# Altium schematic symbol library UNTClibrary.SchLib: 230 symbols (part 2 of 2)
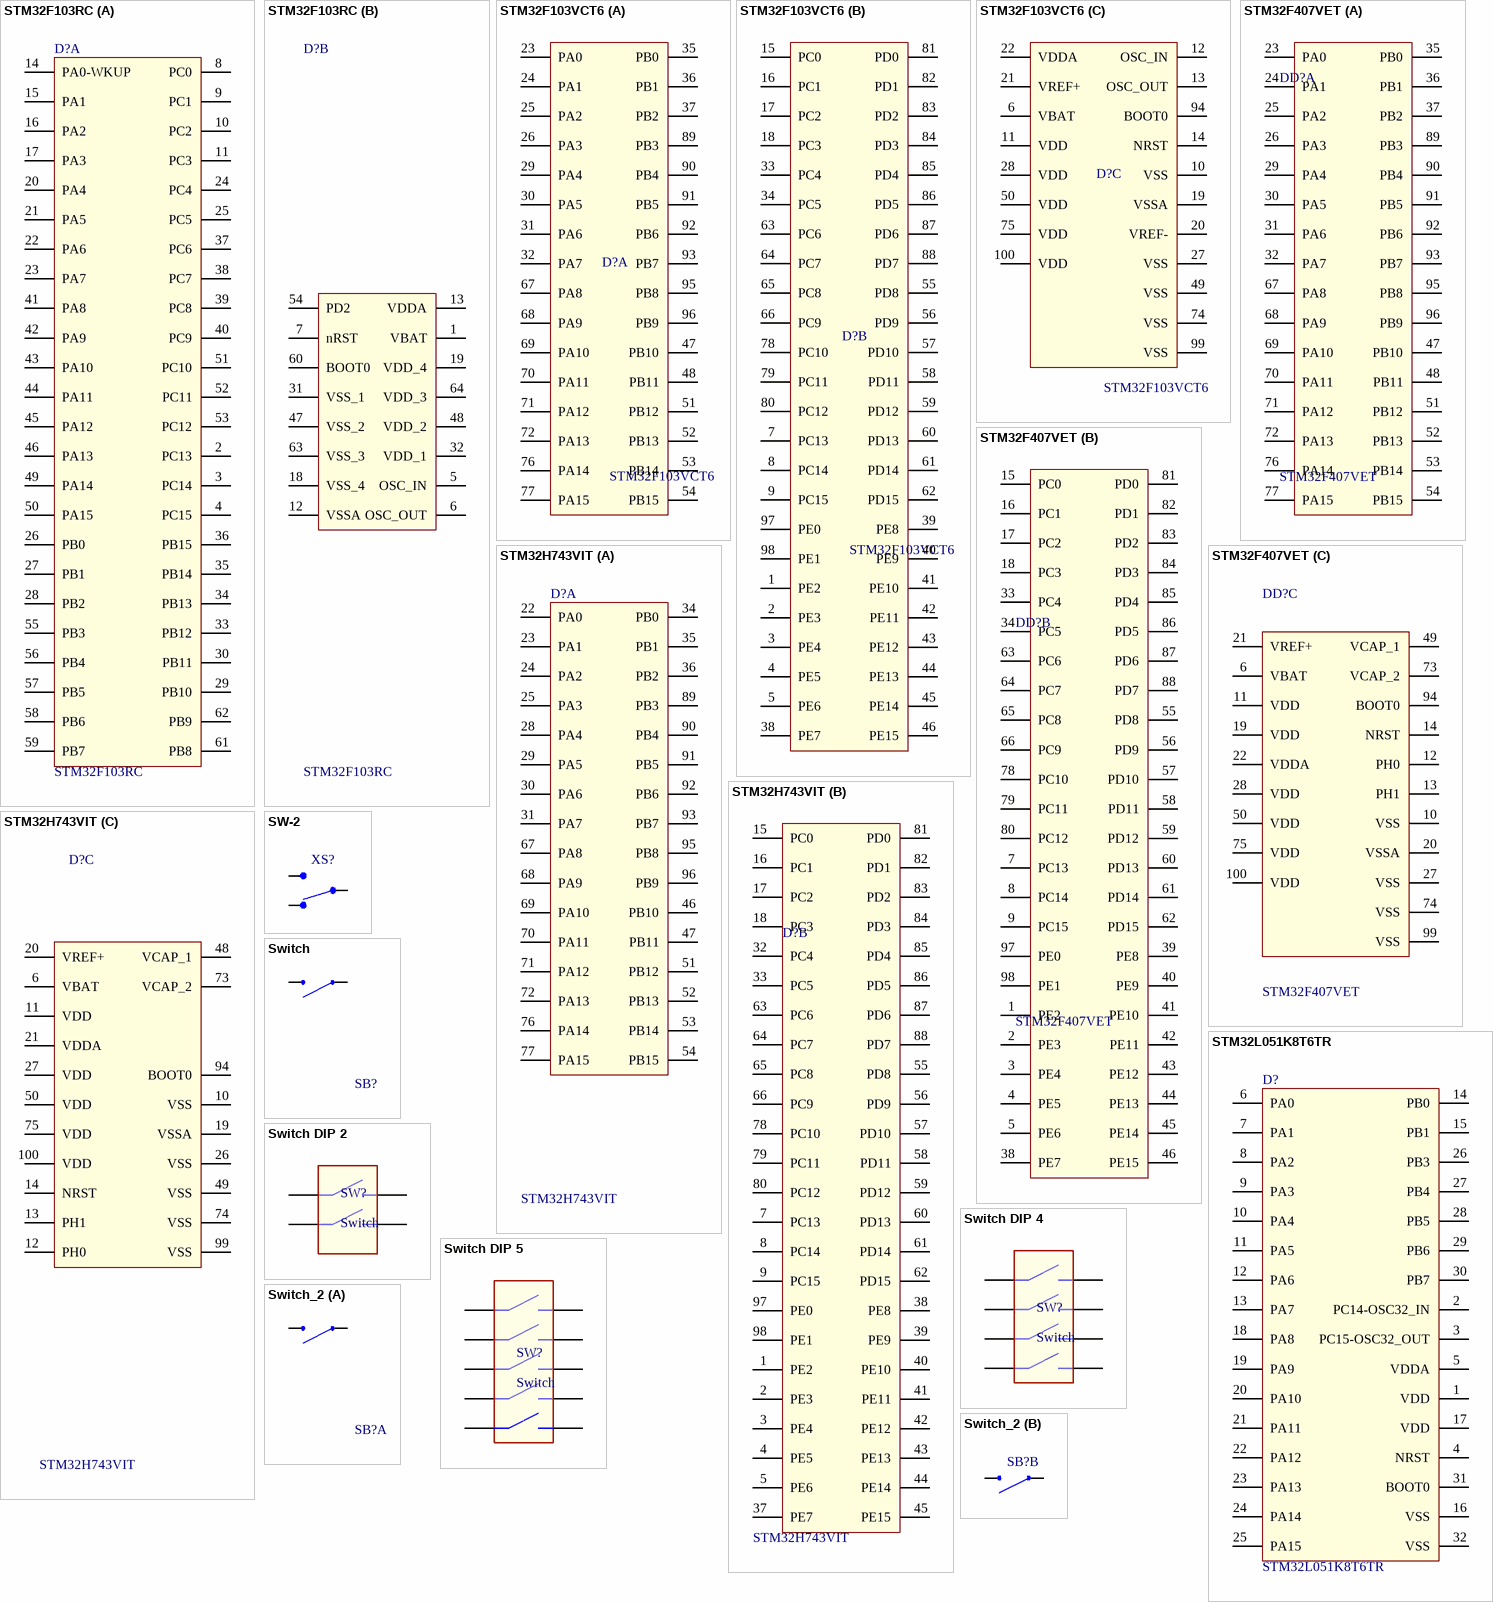
[diagram p10: symbols STM32F103RC to Switch_2]

## STM32F407VET
designator DD?, comment Part Number: STM32F407VET  (hidden comment: Microcontroller)
footprint TQFP-100 (pitch 0.5 mm)
part A pins: 23 PA0, 24 PA1, 25 PA2, 26 PA3, 29 PA4, 30 PA5, 31 PA6, 32 PA7, 35 PB0, 36 PB1, 37 PB2, 47 PB10, 48 PB11, 51 PB12, 52 PB13, 53 PB14, 54 PB15, 67 PA8, 68 PA9, 69 PA10, 70 PA11, 71 PA12, 72 PA13, 76 PA14, 77 PA15, 89 PB3, 90 PB4, 91 PB5, 92 PB6, 93 PB7, 95 PB8, 96 PB9
part B pins: 1 PE2, 2 PE3, 3 PE4, 4 PE5, 5 PE6, 7 PC13, 8 PC14, 9 PC15, 15 PC0, 16 PC1, 17 PC2, 18 PC3, 33 PC4, 34 PC5, 38 PE7, 39 PE8, 40 PE9, 41 PE10, 42 PE11, 43 PE12, 44 PE13, 45 PE14, 46 PE15, 55 PD8, 56 PD9, 57 PD10, 58 PD11, 59 PD12, 60 PD13, 61 PD14, 62 PD15, 63 PC6, 64 PC7, 65 PC8, 66 PC9, 78 PC10, 79 PC11, 80 PC12, 81 PD0, 82 PD1, 83 PD2, 84 PD3, 85 PD4, 86 PD5, 87 PD6, 88 PD7, 97 PE0, 98 PE1
part C pins: 6 VBAT, 10 VSS, 11 VDD, 12 PH0, 13 PH1, 14 NRST, 19 VDD, 20 VSSA, 21 VREF+, 22 VDDA, 27 VSS, 28 VDD, 49 VCAP_1, 50 VDD, 73 VCAP_2, 74 VSS, 75 VDD, 94 BOOT0, 99 VSS, 100 VDD

## STM32H743VIT
designator D?, comment Part Number: STM32H743VIT  (hidden comment: Microcontroller)
footprint TQFP-100 (pitch 0.5 mm)
part A pins: 22 PA0, 23 PA1, 24 PA2, 25 PA3, 28 PA4, 29 PA5, 30 PA6, 31 PA7, 34 PB0, 35 PB1, 36 PB2, 46 PB10, 47 PB11, 51 PB12, 52 PB13, 53 PB14, 54 PB15, 67 PA8, 68 PA9, 69 PA10, 70 PA11, 71 PA12, 72 PA13, 76 PA14, 77 PA15, 89 PB3, 90 PB4, 91 PB5, 92 PB6, 93 PB7, 95 PB8, 96 PB9
part B pins: 1 PE2, 2 PE3, 3 PE4, 4 PE5, 5 PE6, 7 PC13, 8 PC14, 9 PC15, 15 PC0, 16 PC1, 17 PC2, 18 PC3, 32 PC4, 33 PC5, 37 PE7, 38 PE8, 39 PE9, 40 PE10, 41 PE11, 42 PE12, 43 PE13, 44 PE14, 45 PE15, 55 PD8, 56 PD9, 57 PD10, 58 PD11, 59 PD12, 60 PD13, 61 PD14, 62 PD15, 63 PC6, 64 PC7, 65 PC8, 66 PC9, 78 PC10, 79 PC11, 80 PC12, 81 PD0, 82 PD1, 83 PD2, 84 PD3, 85 PD4, 86 PD5, 87 PD6, 88 PD7, 97 PE0, 98 PE1
part C pins: 6 VBAT, 10 VSS, 11 VDD, 12 PH0, 13 PH1, 14 NRST, 19 VSSA, 20 VREF+, 21 VDDA, 26 VSS, 27 VDD, 48 VCAP_1, 49 VSS, 50 VDD, 73 VCAP_2, 74 VSS, 75 VDD, 94 BOOT0, 99 VSS, 100 VDD

## STM32L051K8T6TR
designator D?, comment Part Number: STM32L051K8T6TR  (hidden comment: Microcontroller)
footprint TQFP32 (TQFP, 32-Leads, Body 7,00x7,00mm, Pitch 0,80mm, IPC Medium Density)
pins: 1 VDD, 2 PC14-OSC32_IN, 3 PC15-OSC32_OUT, 4 NRST, 5 VDDA, 6 PA0, 7 PA1, 8 PA2, 9 PA3, 10 PA4, 11 PA5, 12 PA6, 13 PA7, 14 PB0, 15 PB1, 16 VSS, 17 VDD, 18 PA8, 19 PA9, 20 PA10, 21 PA11, 22 PA12, 23 PA13, 24 PA14, 25 PA15, 26 PB3, 27 PB4, 28 PB5, 29 PB6, 30 PB7, 31 BOOT0, 32 VSS

## SW-2
designator XS?, comment Switch  (value not drawn)
Part Number: *
footprint Slide switch
pins: 1, 2, 3

## Switch
designator SB?  (value not drawn)
Switch 1 pole
footprint DIP switch 1
pins: 1, 2

## Switch DIP 2
designator SW?, comment Switch
Part Number: DMHA-02G-G
footprint DMHA-02G-G
pins: 1, 2, 3, 4

## Switch DIP 4
designator SW?, comment Switch
Part Number: 1-1825059-3
footprint 1-1825059-3
pins: 1, 2, 3, 4, 5, 6, 7, 8

## Switch DIP 5
designator SW?, comment Switch
Part Number: DMHA-05G-G
footprint DMHA-05G-G (5 DIP switch)
pins: 1, 2, 3, 4, 5, 6, 7, 8, 9, 10

## Switch_2
designator SB?, comment Switch  (value not drawn)
Part Number: *
footprint DIP switch 2
part A pins: 1, 2
part B pins: 3, 4

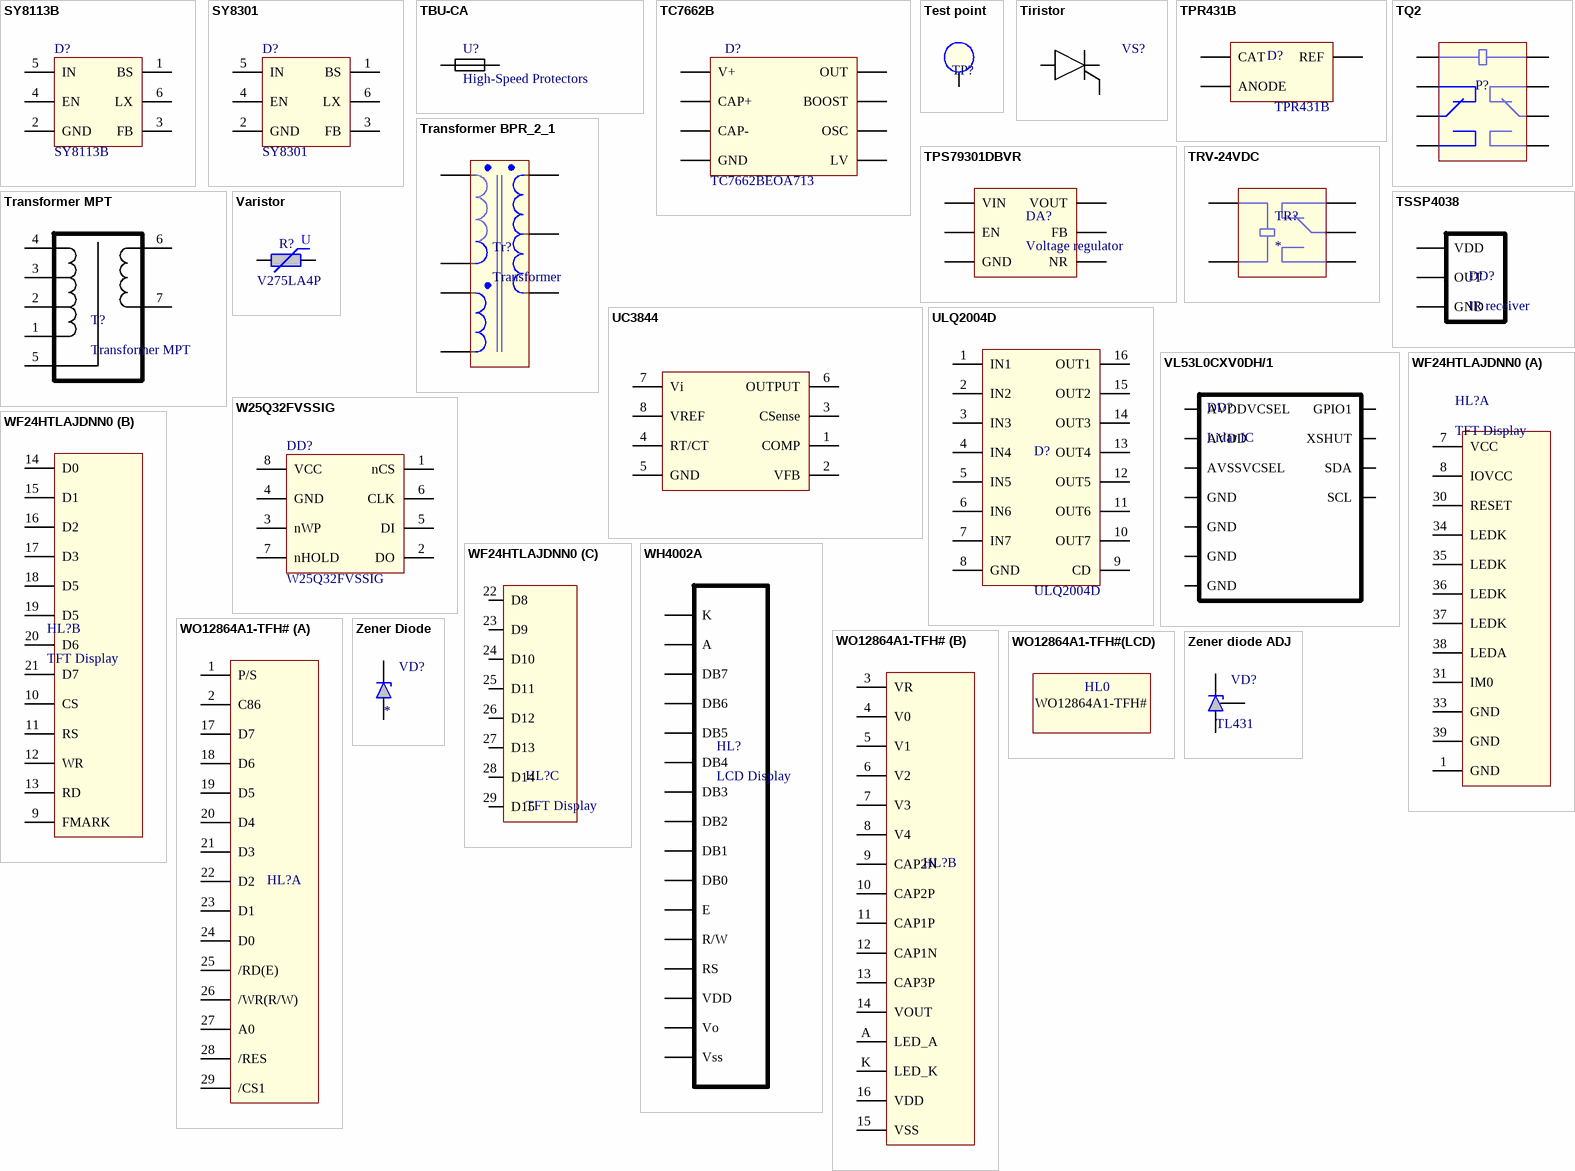
[diagram p9: symbols SY8113B to Zener diode ADJ]

## SY8113B
designator D?, comment Part Number: SY8113B  (hidden comment: DC/DC regulator)
Step down DC/DC regulator; Тип компонента: Микросхема; Наименование: SY8113B
footprint SOT-23-6 (SOT23, 6-Leads, Body 2,92x2,80mm, Pitch 0,95mm, IPC Medium Density)
pins: 1 BS, 2 GND, 3 FB, 4 EN, 5 IN, 6 LX

## SY8301
designator D?, comment Part Number: SY8301  (hidden comment: DC/DC regulator)
Step down DC/DC regulator
footprint SOT-23-6 (SOT23, 6-Leads, Body 2,92x2,80mm, Pitch 0,95mm, IPC Medium Density)
pins: 1 BS, 2 GND, 3 FB, 4 EN, 5 IN, 6 LX

## TBU-CA
designator U?, comment High-Speed Protectors
Part Number: TBU-CA025-100-WH
footprint TBU - CA
pins: 0 hidden, 1, 2

## TC7662B
designator D?, comment Part Number: TC7662BEOA713  (hidden comment: DC/DC converter)
DC/DC converter CHARGE PUMP; Тип компонента: Микросхема; Наименование: TC7662BEOA713
footprint SOP-8
pins: 1 BOOST, 2 CAP+, 3 GND, 4 CAP-, 5 OUT, 6 LV, 7 OSC, 8 V+

## Test point
designator TP?  (value not drawn)  (net tie, no BOM)
footprint TP (Test point D=1.5mm)
pins: 1

## Tiristor
designator VS?  (value not drawn)
Part Number: BCR8PM
footprint DPAK
pins: 1, 2, 3

## TPR431B
designator D?, comment Part Number: TPR431B  (hidden comment: Voltage reference adjust)
Voltage reference adjustble
footprint SOT23-3
pins: 1 CAT, 2 REF, 3 ANODE

## TPS79301DBVR
designator DA?, comment Voltage regulator
Part Number: TPS79301DBVR
footprint SOT-23-6 (SOT23, 6-Leads, Body 2,92x2,80mm, Pitch 0,95mm, IPC Medium Density)
pins: 1 VIN, 2 GND, 3 EN, 4 NR, 5 FB, 6 VOUT

## TQ2
designator P?, comment Electromagnetic relay  (value not drawn)
Relay; Part Number: TQ2-12V
footprint TQ2-12V
pins: 1, 2, 3, 4, 7, 8, 9, 10

## Transformer BPR_2_1
designator Tr?, comment Transformer
footprint BPR_2_1
pins: 1 16, 2 17, 3 20, 4 21, 5 22, 6 18, 7 19

## Transformer MPT
designator T?
footprint Transformer MPT (Трансформатор для МПТ (МУСО, МУЗО))
pins: 1 N, 2 36, 3 127, 4 220, 5 Earth, 6 21V1, 7 21V2

## TRV-24VDC
designator TR?
footprint TRV-24VDC
pins: 1, 2, 3, 4, 5

## TSSP4038
designator DD?, comment IR receiver
Part Number: TSSP4038
footprint TSSP4038
footprint TSSP4038_2
pins: 1 OUT, 2 GND, 3 VDD

## UC3844
designator D?, comment PWM controller
Part Number: UC3844
footprint SOP-8
pins: 1 COMP, 2 VFB, 3 CSense, 4 RT/CT, 5 GND, 6 OUTPUT, 7 Vi, 8 VREF

## ULQ2004D
designator D?, comment Part Number: ULQ2004D  (hidden comment: Seven Darlington array)
footprint SO16
pins: 1 IN1, 2 IN2, 3 IN3, 4 IN4, 5 IN5, 6 IN6, 7 IN7, 8 GND, 9 CD, 10 OUT7, 11 OUT6, 12 OUT5, 13 OUT4, 14 OUT3, 15 OUT2, 16 OUT1

## Varistor
designator R?  Part Number: V275LA4P  (hidden comment: Varistor)
footprint V275LA4P (Varistor)
pins: 1, 2
text: U

## VL53L0CXV0DH/1
designator DD?, comment Lidar IC
Part Number: VL53L0CXV0DH/1
footprint LGA12 (VL53L0CXV0DH/1)
pins: 1 AVDDVCSEL, 2 AVSSVCSEL, 3 GND, 4 GND, 5 XSHUT, 6 GND, 7 GPIO1, 8 DNC hidden, 9 SDA, 10 SCL, 11 AVDD, 12 GND

## W25Q32FVSSIG
designator DD?, comment Part Number: W25Q32FVSSIG  (hidden comment: Flash memory)
footprint SOIC-8 (SOIC, 8-Leads, Body 5,28x5,28mm, Pitch 1,27mm, IPC Medium Density)
pins: 1 nCS, 2 DO, 3 nWP, 4 GND, 5 DI, 6 CLK, 7 nHOLD, 8 VCC

## WF24HTLAJDNN0
designator HL?, comment TFT Display
Part Number: WF24HTLAJDNN0
footprint WF24HTLAJDNN0
part A pins: 1 GND, 2 hidden, 3 hidden, 4 hidden, 5 hidden, 6 hidden, 7 VCC, 8 IOVCC, 30 RESET, 31 IM0, 32 hidden, 33 GND, 34 LEDK, 35 LEDK, 36 LEDK, 37 LEDK, 38 LEDA, 39 GND
part B pins: 9 FMARK, 10 CS, 11 RS, 12 WR, 13 RD, 14 D0, 15 D1, 16 D2, 17 D3, 18 D5, 19 D5, 20 D6, 21 D7
part C pins: 22 D8, 23 D9, 24 D10, 25 D11, 26 D12, 27 D13, 28 D14, 29 D15

## WH4002A
designator HL?, comment LCD Display
Part Number: WH4002
footprint WH4002
footprint WH4002 - 2
footprint WH4002 kdr3
pins: 1 Vss, 2 VDD, 3 Vo, 4 RS, 5 R/W, 6 E, 7 DB0, 8 DB1, 9 DB2, 10 DB3, 11 DB4, 12 DB5, 13 DB6, 14 DB7, 15 A, 16 K

## WO12864A1-TFH#
designator HL?, comment LCD  (value not drawn)
Part Number: PBD-20
footprint WO12864A1-TFH#
footprint WO12864A1-TFH# (without lcd)
part A pins: 1 P/S, 2 C86, 17 D7, 18 D6, 19 D5, 20 D4, 21 D3, 22 D2, 23 D1, 24 D0, 25 /RD(E), 26 /WR(R/W), 27 A0, 28 /RES, 29 /CS1
part B pins: 0 hidden, 3 VR, 4 V0, 5 V1, 6 V2, 7 V3, 8 V4, 9 CAP2N, 10 CAP2P, 11 CAP1P, 12 CAP1N, 13 CAP3P, 14 VOUT, 15 VSS, 16 VDD, A LED_A, K LED_K

## WO12864A1-TFH#(LCD)
designator HL0  (value not drawn)
footprint WO12864A1-TFH# (LCD)
text: WO12864A1-TFH#

## Zener Diode
designator VD?  (value not drawn)
Тип компонента: Стабилитрон; Наименование: ?; Part Number: ?; Value: *
footprint SOD80
footprint Diode 5W (Diode 5W vertical)
footprint DIODE SMD A (3216, DO-214AC)
footprint Diode DO-41
footprint DIODE SMD B
footprint DIODE DO-201
pins: A 1, K 2

## Zener diode ADJ
designator VD?  Part Number: TL431  (hidden comment: Zener diode ADJ)
Adjustable reference voltage source | ZENER diode
footprint SOT23-3
pins: 1, 2, 3